# Altium footprint library VioletofSun.PcbLib: 319 footprints (part 16 of 20)
Each footprint in its own frame and in the unit in brackets; x right, y up, seen from the top. Pads: shape width x height; smd on the part's side, far side on the other; paste and mask are expansions set on the pad; w line width, h text height; cw(c..) or ccw(c..) is an arc to the next point about the centre after c.
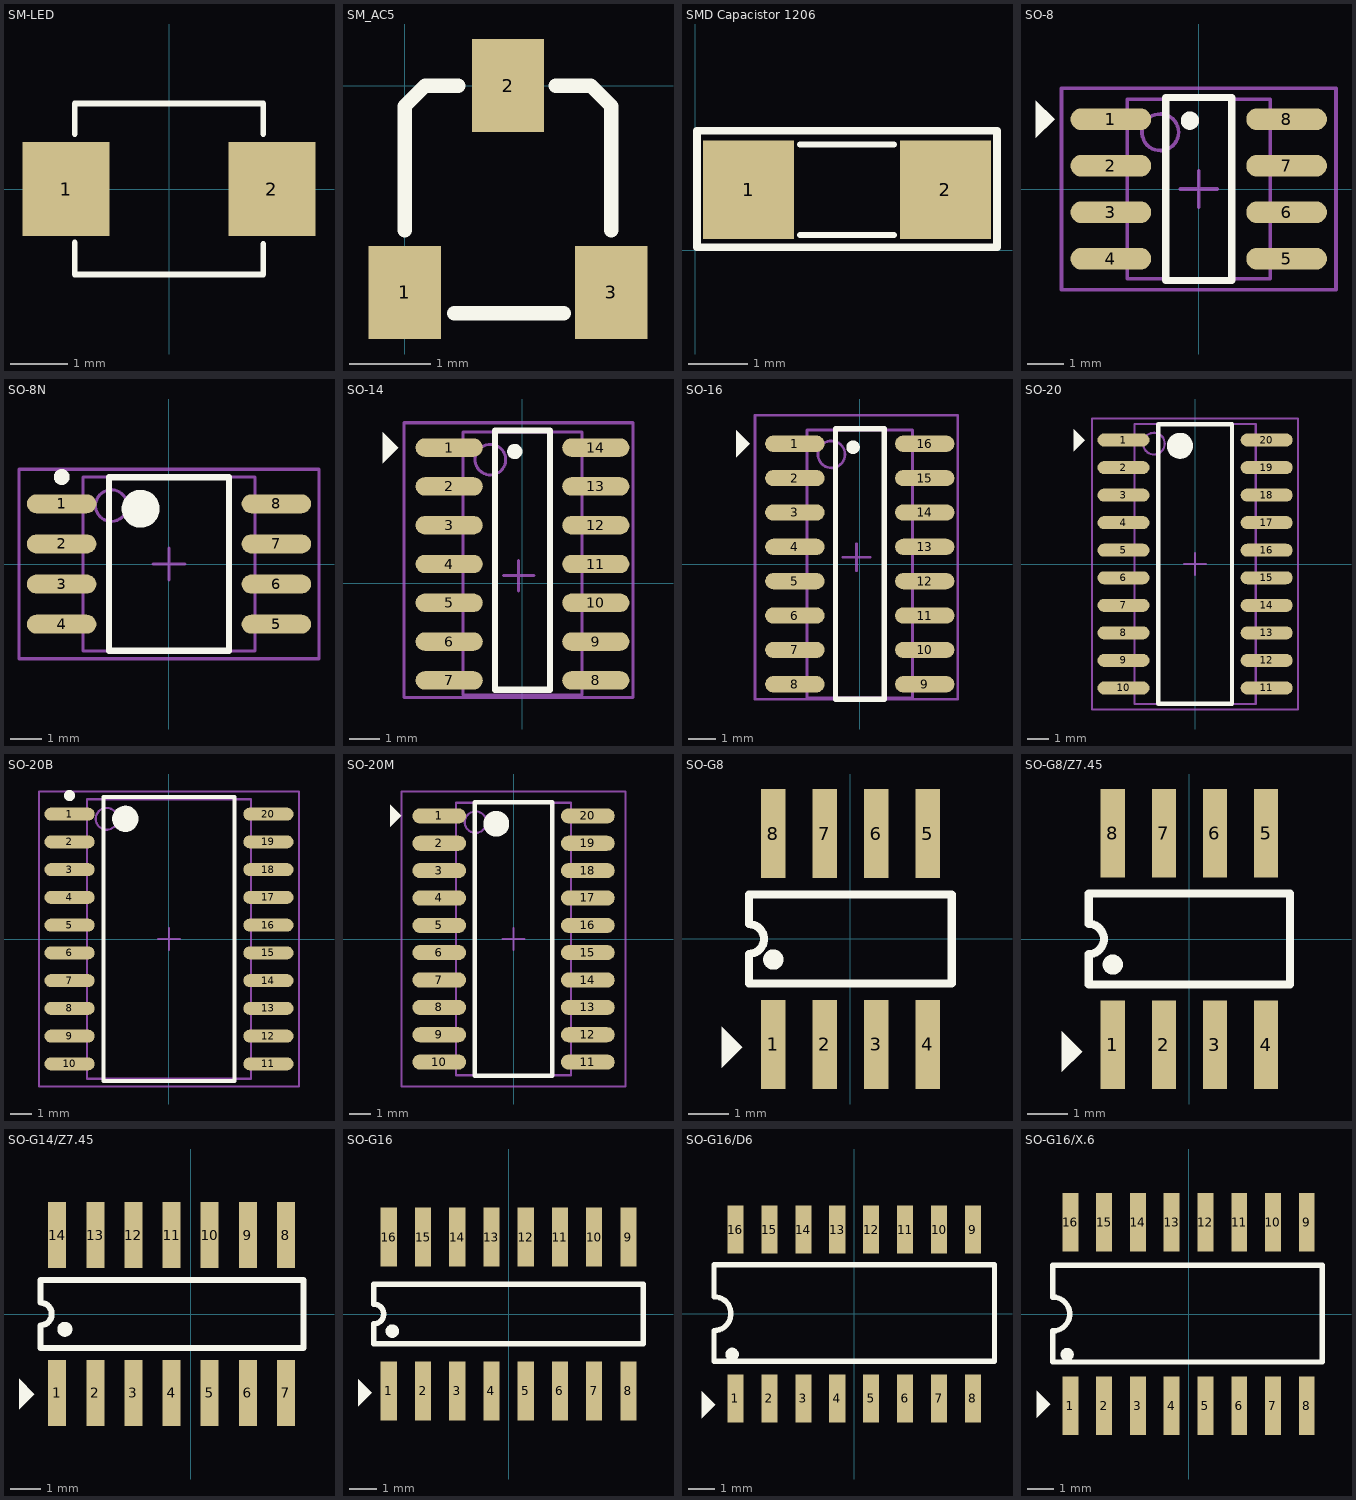
[diagram p15: the footprints below, top view; thin cyan lines are the x and y axes]

## SM-LED [mil] "Compoment SMD 120x60mil"
height 50
pads (2):
  rect 60x65 smd: 1(-71,0) 2(71,0)
Top Overlay:
  lines w4: -65,-37 -65,-59 65,-59 65,-38 ; -65,38 -65,59 65,59 65,38

## SM_AC5 [mil]
pads (3):
  rect 35x45 smd: 1(0,-100) 2(50,0) 3(100,-100)
Top Overlay:
  lines w7: 0,-70 0,-10 10,0 26,0 ; 24,-110 77,-110 ; 73,0 90,0 100,-10 100,-70

## SMD Capacistor 1206 [mil]
pads (2):
  rect 60x65 smd: 1(35,40) 2(165,40)
Top Overlay:
  lines w4: 69,10 131,10 ; 69,70 131,70
  lines w5: 1,2 199,2 199,79 1,79 1,2
3D body: height 24.02, standoff -0.39, extent 60.24,15 139.76,65

## SO-8 [mm] "8-Pin Small Outline Integrated Circuit 1.27 mm Pitch, IPC Medium Density"
height 1.75
pads (8):
  oval 2.2x0.6 smd: 1(-2.4,1.905) 2(-2.4,0.635) 3(-2.4,-0.635) 4(-2.4,-1.905) 5(2.4,-1.905) 6(2.4,-0.635) 7(2.4,0.635) 8(2.4,1.905)
Top Overlay:
  circle w0.25: c-0.241,1.866 r0.125
  region: -4.445,1.397 -3.937,1.905 -4.445,2.413
  lines w0.2: -0.9,-2.5 0.9,-2.5 0.9,2.5 -0.9,2.5 -0.9,-2.5
Mechanical 13:
  circle w0.1: c-1.05,1.55 r0.5
  lines w0.1: -1.95,-2.45 1.95,-2.45 1.95,2.45 -1.95,2.45 -1.95,-2.45
Mechanical 15:
  lines w0.1: -0.5,0 0.5,0 ; 0,-0.5 0,0.5 ; -3.75,-2.75 3.75,-2.75 3.75,2.75 -3.75,2.75 -3.75,-2.75
3D body: height 1.75, standoff 0, extent -1.95,-2.45 1.95,2.45

## SO-8N [mm] "SOP, 8-Leads, Body 5.3x5.3mm, Pitch 1.27mm, IPC Medium Density"
height 2.03
pads (8):
  oval 2.2x0.6 smd: 1(-3.4,1.905) 2(-3.4,0.635) 3(-3.4,-0.635) 4(-3.4,-1.905) 5(3.4,-1.905) 6(3.4,-0.635) 7(3.4,0.635) 8(3.4,1.905)
Top Overlay:
  circle w0.6: c-0.9,1.75 r0.3
  circle w0.25: c-3.4,2.755 r0.125
  lines w0.2: -1.9,-2.75 1.9,-2.75 1.9,2.75 -1.9,2.75 -1.9,-2.75
Mechanical 13:
  circle w0.1: c-1.825,1.85 r0.5
  lines w0.1: -2.725,-2.75 2.725,-2.75 2.725,2.75 -2.725,2.75 -2.725,-2.75
Mechanical 15:
  lines w0.1: -0.5,0 0.5,0 ; 0,-0.5 0,0.5 ; -4.75,-3 4.75,-3 4.75,3 -4.75,3 -4.75,-3
3D body: height 2.03, standoff 0, extent -2.725,-2.75 2.725,2.75

## SO-14 [mm] "SOIC, 14-Leads, Body 9.9x3.9mm, Pitch 1.27mm, IPC Medium Density"
height 1.75
pads (14):
  oval 2.2x0.6 smd: 1(-2.4,4.445) 2(-2.4,3.175) 3(-2.4,1.905) 4(-2.4,0.635) 5(-2.4,-0.635) 6(-2.4,-1.905) 7(-2.4,-3.175) 8(2.4,-3.175) 9(2.4,-1.905) 10(2.4,-0.635) 11(2.4,0.635) 12(2.4,1.905) 13(2.4,3.175) 14(2.4,4.445)
Top Overlay:
  circle w0.25: c-0.252,4.318 r0.125
  region: -4.572,3.937 -4.064,4.445 -4.572,4.953
  lines w0.2: -0.9,-3.48 0.9,-3.48 0.9,5 -0.9,5 -0.9,-3.48
Mechanical 13:
  circle w0.1: c-1.05,4.05 r0.5
  lines w0.1: -1.95,-3.658 1.95,-3.658 1.95,4.95 -1.95,4.95 -1.95,-3.658
Mechanical 15:
  lines w0.1: -0.627,0.254 0.373,0.254 ; -0.127,-0.246 -0.127,0.754 ; -3.877,-3.734 3.623,-3.734 3.623,5.258 -3.877,5.258 -3.877,-3.734
3D body: height 1.75, standoff 0, extent -1.956,-3.658 1.95,4.95

## SO-16 [mm] "SOIC, 16-Leads, Body 9.9x3.9mm, Pitch 1.27mm, IPC Medium Density"
height 1.75
pads (16):
  oval 2.2x0.6 smd: 1(-2.4,4.445) 2(-2.4,3.175) 3(-2.4,1.905) 4(-2.4,0.635) 5(-2.4,-0.635) 6(-2.4,-1.905) 7(-2.4,-3.175) 8(-2.4,-4.445) 9(2.4,-4.445) 10(2.4,-3.175) 11(2.4,-1.905) 12(2.4,-0.635) 13(2.4,0.635) 14(2.4,1.905) 15(2.4,3.175) 16(2.4,4.445)
Top Overlay:
  circle w0.25: c-0.252,4.318 r0.125
  region: -4.572,3.937 -4.064,4.445 -4.572,4.953
  lines w0.2: -0.9,-5 -0.9,5 0.9,5 0.9,-5 -0.9,-5
Mechanical 13:
  circle w0.1: c-1.05,4.05 r0.5
  lines w0.1: -1.95,-4.95 -1.95,4.95 1.95,4.95 1.95,-4.95 -1.95,-4.95
Mechanical 15:
  lines w0.1: -0.627,0.254 0.373,0.254 ; -0.127,-0.246 -0.127,0.754 ; -3.877,-4.996 -3.877,5.504 3.623,5.504 3.623,-4.996 -3.877,-4.996
3D body: height 1.75, standoff 0, extent -1.95,-4.95 1.95,4.95

## SO-20 [mm] "20-Pin Small Outline Package 1.27 mm Pitch"
height 2
pads (20):
  oval 2.4x0.6 smd: 1(-3.3,5.715) 2(-3.3,4.445) 3(-3.3,3.175) 4(-3.3,1.905) 5(-3.3,0.635) 6(-3.3,-0.635) 7(-3.3,-1.905) 8(-3.3,-3.175) 9(-3.3,-4.445) 10(-3.3,-5.715) 11(3.3,-5.715) 12(3.3,-4.445) 13(3.3,-3.175) 14(3.3,-1.905) 15(3.3,-0.635) 16(3.3,0.635) 17(3.3,1.905) 18(3.3,3.175) 19(3.3,4.445) 20(3.3,5.715)
Top Overlay:
  circle w0.6: c-0.7,5.45 r0.3
  region: -5.588,5.207 -5.08,5.715 -5.588,6.223
  lines w0.2: -1.7,-6.45 -1.7,6.45 1.7,6.45 1.7,-6.45 -1.7,-6.45
Mechanical 13:
  circle w0.1: c-1.9,5.55 r0.5
  lines w0.1: -2.8,-6.45 -2.8,6.45 2.8,6.45 2.8,-6.45 -2.8,-6.45
Mechanical 15:
  lines w0.1: -0.5,0 0.5,0 ; 0,-0.5 0,0.5 ; -4.75,-6.7 -4.75,6.7 4.75,6.7 4.75,-6.7 -4.75,-6.7
3D body: height 2, standoff 0, extent -2.8,-6.45 2.8,6.45

## SO-20B [mm] "SOIC, 20-Leads, Body 12.8x7.5mm, Pitch 1.27mm, IPC Medium Density"
height 2.6
pads (20):
  oval 2.3x0.6 smd: 1(-4.55,5.715) 2(-4.55,4.445) 3(-4.55,3.175) 4(-4.55,1.905) 5(-4.55,0.635) 6(-4.55,-0.635) 7(-4.55,-1.905) 8(-4.55,-3.175) 9(-4.55,-4.445) 10(-4.55,-5.715) 11(4.55,-5.715) 12(4.55,-4.445) 13(4.55,-3.175) 14(4.55,-1.905) 15(4.55,-0.635) 16(4.55,0.635) 17(4.55,1.905) 18(4.55,3.175) 19(4.55,4.445) 20(4.55,5.715)
Top Overlay:
  circle w0.6: c-2,5.5 r0.3
  circle w0.25: c-4.55,6.565 r0.125
  lines w0.2: -3,-6.5 3,-6.5 3,6.5 -3,6.5 -3,-6.5
Mechanical 13:
  circle w0.1: c-2.85,5.5 r0.5
  lines w0.1: -3.75,-6.4 3.75,-6.4 3.75,6.4 -3.75,6.4 -3.75,-6.4
Mechanical 15:
  lines w0.1: -0.5,0 0.5,0 ; 0,-0.5 0,0.5 ; -5.95,-6.75 5.95,-6.75 5.95,6.75 -5.95,6.75 -5.95,-6.75
3D body: height 2.6, standoff 0, extent -3.75,-6.4 3.75,6.4

## SO-20M [mm] "SOP, 20-Leads, Body 12.6x5.3mm, Pitch 1.27mm, IPC Low Density"
height 1.96
pads (20):
  oval 2.5x0.7 smd: 1(-3.45,5.715) 2(-3.45,4.445) 3(-3.45,3.175) 4(-3.45,1.905) 5(-3.45,0.635) 6(-3.45,-0.635) 7(-3.45,-1.905) 8(-3.45,-3.175) 9(-3.45,-4.445) 10(-3.45,-5.715) 11(3.45,-5.715) 12(3.45,-4.445) 13(3.45,-3.175) 14(3.45,-1.905) 15(3.45,-0.635) 16(3.45,0.635) 17(3.45,1.905) 18(3.45,3.175) 19(3.45,4.445) 20(3.45,5.715)
Top Overlay:
  circle w0.6: c-0.8,5.35 r0.3
  region: -5.715,5.207 -5.207,5.715 -5.715,6.223
  lines w0.2: -1.8,-6.35 1.8,-6.35 1.8,6.35 -1.8,6.35 -1.8,-6.35
Mechanical 13:
  circle w0.1: c-1.765,5.425 r0.5
  lines w0.1: -2.665,-6.325 2.665,-6.325 2.665,6.325 -2.665,6.325 -2.665,-6.325
Mechanical 15:
  lines w0.1: -0.5,0 0.5,0 ; 0,-0.5 0,0.5 ; -5.2,-6.85 5.2,-6.85 5.2,6.85 -5.2,6.85 -5.2,-6.85
3D body: height 1.96, standoff 0, extent -2.665,-6.325 2.665,6.325

## SO-G8 [mm] "Small Outline; 8 Leads; Body Width 3.9 mm; Pitch 1.27 mm"
height 1.75
pads (8):
  rect 0.6x2.2 smd: 1(-1.905,-2.6) 2(-0.635,-2.6) 3(0.635,-2.6) 4(1.905,-2.6) 5(1.905,2.6) 6(0.635,2.6) 7(-0.635,2.6) 8(-1.905,2.6)
Top Overlay:
  circle w0.25: c-1.903,-0.508 r0.125
  region: -3.175,-3.175 -2.667,-2.667 -3.175,-2.159
  lines w0.2: -2.5,-1.1 2.5,-1.1 2.5,1.1 -2.5,1.1 -2.5,0.367 cw(c-2.5,0) -2.5,-0.367 -2.5,-1.1

## SO-G8/Z7.45 [mm] "Small Outline; 8 Leads; Body Width 3.9 mm; Pitch 1.27 mm"
height 1.75
pads (8):
  rect 0.6x2.2 smd: 1(-1.905,-2.625) 2(-0.635,-2.625) 3(0.635,-2.625) 4(1.905,-2.625) 5(1.905,2.625) 6(0.635,2.625) 7(-0.635,2.625) 8(-1.905,2.625)
Top Overlay:
  circle w0.25: c-1.903,-0.635 r0.125
  region: -3.175,-3.302 -2.667,-2.794 -3.175,-2.286
  lines w0.2: -2.5,-1.125 2.5,-1.125 2.5,1.125 -2.5,1.125 -2.5,0.375 cw(c-2.5,0) -2.5,-0.375 -2.5,-1.125

## SO-G14/Z7.45 [mm] "Small Outline; 14 Leads; Body Width 3.9 mm; Pitch 1.27 mm"
height 1.75
pads (14):
  rect 0.6x2.2 smd: 1(-4.445,-2.625) 2(-3.175,-2.625) 3(-1.905,-2.625) 4(-0.635,-2.625) 5(0.635,-2.625) 6(1.905,-2.625) 7(3.175,-2.625) 8(3.175,2.625) 9(1.905,2.625) 10(0.635,2.625) 11(-0.635,2.625) 12(-1.905,2.625) 13(-3.175,2.625) 14(-4.445,2.625)
Top Overlay:
  circle w0.25: c-4.189,-0.508 r0.125
  region: -5.715,-3.175 -5.207,-2.667 -5.715,-2.159
  lines w0.2: -5,-1.125 -5,-0.375 ccw(c-5,0) -5,0.375 -5,1.125 3.759,1.125 3.759,-1.125 -5,-1.125

## SO-G16 [mm] "Small Outline; 16 Leads; Body Width 3.9 mm; Pitch 1.27 mm"
height 1.75
pads (16):
  rect 0.6x2.2 smd: 1(-4.445,-2.854) 2(-3.175,-2.854) 3(-1.905,-2.854) 4(-0.635,-2.854) 5(0.635,-2.854) 6(1.905,-2.854) 7(3.175,-2.854) 8(4.445,-2.854) 9(4.445,2.854) 10(3.175,2.854) 11(1.905,2.854) 12(0.635,2.854) 13(-0.635,2.854) 14(-1.905,2.854) 15(-3.175,2.854) 16(-4.445,2.854)
Top Overlay:
  circle w0.25: c-4.316,-0.635 r0.125
  region: -5.588,-3.429 -5.08,-2.921 -5.588,-2.413
  lines w0.2: -5,-1.1 5,-1.1 5,1.1 -5,1.1 -5,0.367 cw(c-5,0) -5,-0.367 -5,-1.1

## SO-G16/D6 [mm] "Small Outline; 16 Leads; Body Width 5.3 mm; Pitch 1.27 mm"
height 2
pads (16):
  rect 0.6x1.8 smd: 1(-4.445,-3.168) 2(-3.175,-3.168) 3(-1.905,-3.168) 4(-0.635,-3.168) 5(0.635,-3.168) 6(1.905,-3.168) 7(3.175,-3.168) 8(4.445,-3.168) 9(4.445,3.143) 10(3.175,3.143) 11(1.905,3.143) 12(0.635,3.143) 13(-0.635,3.143) 14(-1.905,3.143) 15(-3.175,3.143) 16(-4.445,3.143)
Top Overlay:
  circle w0.25: c-4.57,-1.524 r0.125
  region: -5.715,-3.912 -5.207,-3.404 -5.715,-2.896
  lines w0.2: -5.25,-1.778 5.25,-1.778 5.25,1.829 -5.25,1.829 -5.25,0.635 cw(c-5.25,0) -5.25,-0.635 -5.25,-1.778

## SO-G16/X.6 [mm] "Small Outline; 16 Leads; Body Width 5.3 mm; Pitch 1.27 mm"
height 2
pads (16):
  rect 0.6x2.2 smd: 1(-4.445,-3.448) 2(-3.175,-3.448) 3(-1.905,-3.448) 4(-0.635,-3.448) 5(0.635,-3.448) 6(1.905,-3.448) 7(3.175,-3.448) 8(4.445,-3.448) 9(4.445,3.448) 10(3.175,3.448) 11(1.905,3.448) 12(0.635,3.448) 13(-0.635,3.448) 14(-1.905,3.448) 15(-3.175,3.448) 16(-4.445,3.448)
Top Overlay:
  circle w0.25: c-4.57,-1.524 r0.125
  region: -5.715,-3.912 -5.207,-3.404 -5.715,-2.896
  lines w0.2: -5.105,0.635 cw(c-5.105,0) -5.105,-0.635 -5.105,-1.803 5.029,-1.803 5.029,1.829 -5.105,1.829 -5.105,0.686